# Altium footprint library DPAK.PcbLib: 1 footprints
Each footprint in its own frame and in the unit in brackets; x right, y up, seen from the top. Pads: shape width x height; smd on the part's side, far side on the other; paste and mask are expansions set on the pad; w line width, h text height; cw(c..) or ccw(c..) is an arc to the next point about the centre after c.
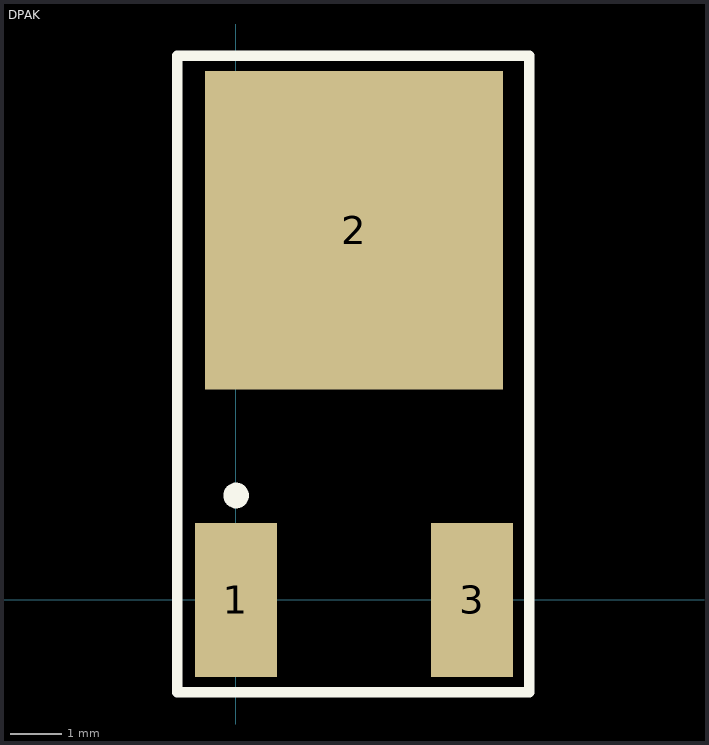
[diagram p0: the footprint, top view; thin cyan lines are the x and y axes]

## DPAK [mm]
pads (3):
  rect 1.6x3 smd: 1(0,0) 3(4.6,0)
  rect 5.8x6.2 smd: 2(2.3,7.2)
Top Overlay:
  circle w0.25: c0.002,2.032 r0.125
  lines w0.2: -1.143,-1.8 5.715,-1.8 5.715,9.488 5.715,10.6 -1.143,10.6 -1.143,-1.8
3D body: height 2.34, standoff -0.07, extent -0.97,-0.611 5.57,9.328